# Altium schematic symbol library MiscParts.SchLib: 7 symbols
Pins are listed as number, name and electrical type; pins without a type are passive.

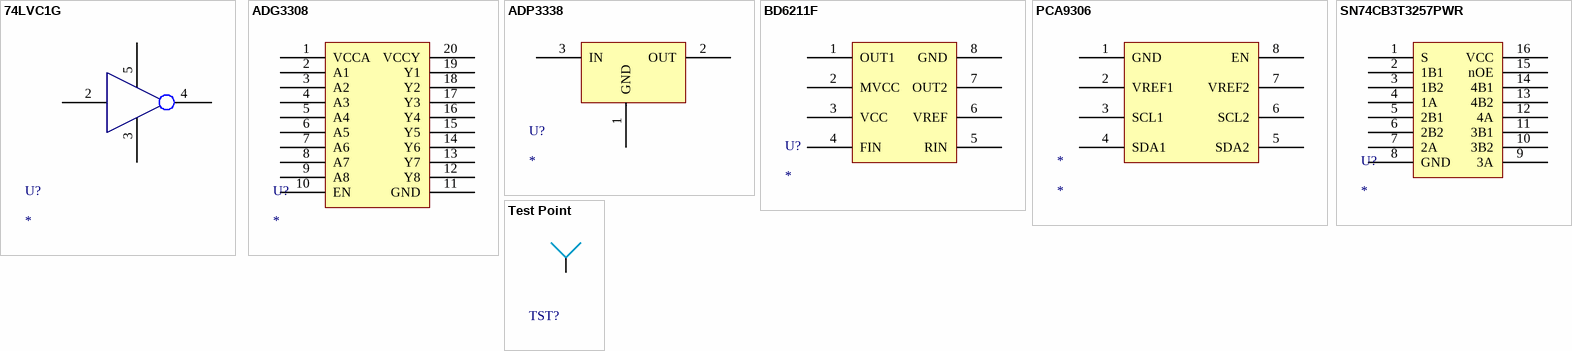
[diagram p0: symbols 74LVC1G to Test Point]

## 74LVC1G
designator U?
footprint SOT353-5M
pins: 2, 3 GND, 4, 5 VCC

## ADG3308
designator U?
footprint TSSOP20 (Shrink Small Outline; 20 Leads; Body Width 4.4 mm; Pitch 0.65 mm)
pins: 1 VCCA, 2 A1, 3 A2, 4 A3, 5 A4, 6 A5, 7 A6, 8 A7, 9 A8, 10 EN, 11 GND, 12 Y8, 13 Y7, 14 Y6, 15 Y5, 16 Y4, 17 Y3, 18 Y2, 19 Y1, 20 VCCY

## ADP3338
designator U?
footprint SOT223-4l (SOT223, 4-Leads, Body 6.5x3.5mm, Pitch 2.3mm, Lead Span 7mm, IPC High Density)
pins: 1 GND, 2 OUT, 3 IN

## BD6211F
designator U?
footprint SOP8 (Small Outline; 8 Leads; Body Width 4.3 mm; Pitch 1.27 mm)
pins: 1 OUT1, 2 MVCC, 3 VCC, 4 FIN, 5 RIN, 6 VREF, 7 OUT2, 8 GND

## PCA9306
designator *
footprint TSSOP8 (Shrink Small Outline, Plastic, Thin; 8 Leads; Body Width 4.4 mm; Pitch 0.65 mm)
pins: 1 GND, 2 VREF1, 3 SCL1, 4 SDA1, 5 SDA2, 6 SCL2, 7 VREF2, 8 EN

## SN74CB3T3257PWR
designator U?
pins: 1 S, 2 1B1, 3 1B2, 4 1A, 5 2B1, 6 2B2, 7 2A, 8 GND, 9 3A, 10 3B2, 11 3B1, 12 4A, 13 4B2, 14 4B1, 15 nOE, 16 VCC

## Test Point
designator TST?  (value not drawn)
footprint tst
pins: 0 TST